# Altium schematic symbol library Lora-IO-Device.SCHLIB: 23 symbols
Pins are listed as number, name and electrical type; pins without a type are passive.

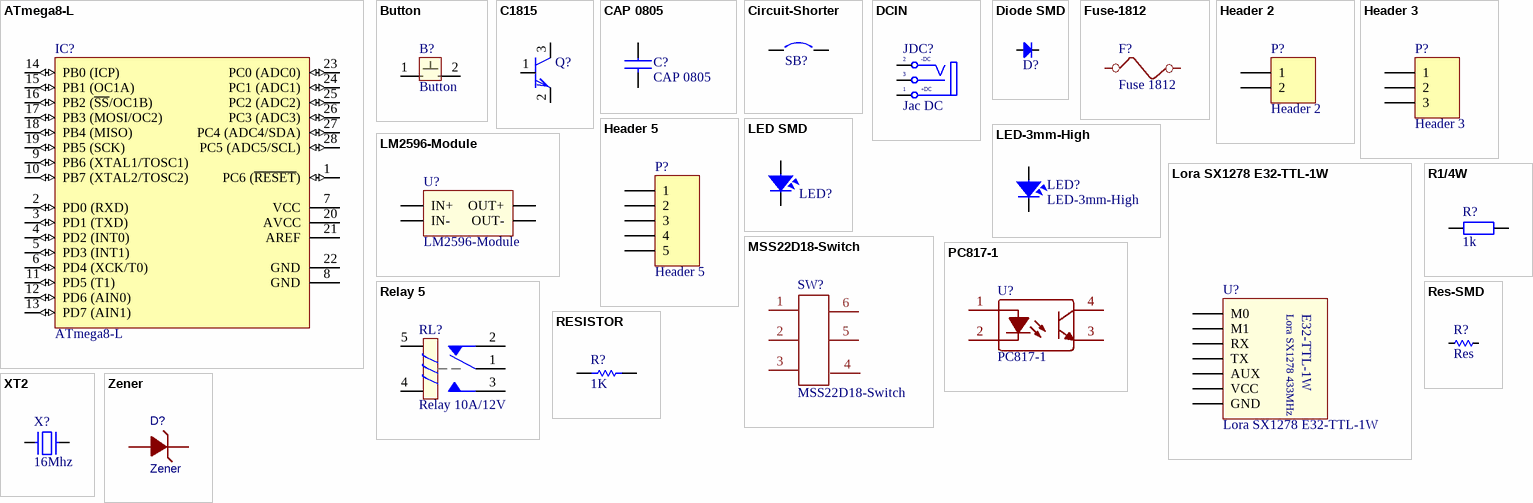
[diagram p0: symbols ATmega8-L to Zener]

## ATmega8-L
designator IC?
8-Bit AVR Microcontroller with 8K Bytes of In-System Programmable Flash Memory; Value: ATmega8-L
footprint QFP7X7-G32/X.45N (QFP; 32 Leads; Body 7 x 7 mm; Pitch 0.8 mm)
footprint DIP28/W0.3 (28 PIN, W 300mil, Pin to pin 100mil)
pins: 1 PC6 (~{RESET}) (io), 2 PD0 (RXD) (io), 3 PD1 (TXD) (io), 4 PD2 (INT0) (io), 5 PD3 (INT1) (io), 6 PD4 (XCK/T0) (io), 7 VCC (power), 8 GND (power), 9 PB6 (XTAL1/TOSC1) (io), 10 PB7 (XTAL2/TOSC2) (io), 11 PD5 (T1) (io), 12 PD6 (AIN0) (io), 13 PD7 (AIN1) (io), 14 PB0 (ICP) (io), 15 PB1 (OC1A) (io), 16 PB2 (~{SS}/OC1B) (io), 17 PB3 (MOSI/OC2) (io), 18 PB4 (MISO) (io), 19 PB5 (SCK) (io), 20 AVCC (power), 21 AREF, 22 GND (power), 23 PC0 (ADC0) (io), 24 PC1 (ADC1) (io), 25 PC2 (ADC2) (io), 26 PC3 (ADC3) (io), 27 PC4 (ADC4/SDA) (io), 28 PC5 (ADC5/SCL) (io)

## Button
designator B?
Button 6x6 SMD 4 pin
footprint Button (B?)
pins: 1, 2

## C1815
designator Q?  (value not drawn)
Q2SC1815; PSpiceTemplate: Q^@REFDES %c %b %e @MODEL; Vendor: Digikey; COMPONENT: 2SC1815; Published: 13-April-2009; Publisher: Hoang Nguyen; ComponentLink1Description: Digikey Part Link; ComponentLink2Description: Open Datasheet; ComponentLink2URL: H:\LIBRARY\LIBRARY.Datasheet\; Price: 500VND
footprint TO92-ECB
simulation model Q2SC1815
footprint SOT23 [C1815] (SOT23, 3-Leads, Body 3.0x2.6mm (max), Pitch 0.95mm, IPC Medium Density)
footprint SOT23N (SOT23, 3-Leads, Body 3.0x2.6mm (max), Pitch 0.95mm, IPC Medium Density)
footprint TO92-ECB-W (C1815)
pins: 1 B, 2 E, 3 C

## CAP 0805
designator C?
Right: 20; Bottom: 10
footprint 0805
pins: 1, 2

## Circuit-Shorter
designator SB?  (value not drawn)
Solder: NO; Published: 24-Mar-1999; Revision: July-2002: Re-released for DXP Platform.; Publisher: Altium Limited
footprint SPST-2 (Circuit Breaker; 2 Leads)
footprint JP2_SMD
footprint Circuit-Shorter
pins: 1, 2

## DCIN
designator JDC?, comment Jac DC
Jac DC input; Value: Jac DC
footprint DC0 (Jac DC input)
footprint DC1 (WR-DC_DC Power Jack_Right Angled_THT Center Pin ?0.65_Plug ID ?0.75_Plug OD ?2.35_with Peg)
footprint DC2 (WR-DC_DC Power Jack_Vertical_THT WR-DC_DC Power Jack_Vertical_THT)
footprint DC3 (WR-DC_DC Power Jack_Vertical_THT Center Pin ?2.5_Plug ID ?2.55_Plug OD ?5.5)
footprint DC4 (WR-DC_DC Power Jack_Right Angled_THT Center Pin ?1.0_Plug ID ?1.05_Plug OD ?3.5_with Peg)
footprint DC5 (WR-DC_DC Power Jack_Right Angled_THT Center Pin ?1.3_Plug ID ?1.35_Plug OD ?3.5_with Peg)
pins: 1 T "Tip", 2 TN "Tip Normal (Break Contact)", 3 S (power) "Sleeve (Ground)"
text: -DC; +DC

## Diode SMD
designator D?  (value not drawn)
Default Diode; Code - JEDEC: DO-214-AB; Value: 1N5007; Published: 8-Jun-2000; Revision: July-2002: Re-released for DXP Platform.; Publisher: Altium Limited
footprint DIO-SMD-106
footprint DIO-SMD-123
footprint DIO-SMD-A
footprint DIO-SMD-B (Magnetic-Core Inductor with Winding Polarity Marking; 2 Leads)
footprint DIO-SMD-216AA (DO216AA ST-MITE)
footprint DIO-SMD-222AA (DO216AA ST-MITE)
pins: 1 A, 2 K

## Fuse-1812
designator F?, comment Fuse 1812
footprint Fuse-1812
pins: 1, 2

## Header 2
designator P?
Header, 2-Pin; LatestRevisionDate: 17-Jul-2002; LatestRevisionNote: Re-released for DXP Platform.; Publisher: Altium Limited
footprint PHeader 2 (Connector; Header; 2 Position)
footprint Header 2 (Connector; Header; 2 Position)
footprint TBlock 2 (Connector; Terminal; 2 Positions; Solder Pad 35mil)
footprint SHeader 2 (Connector; Header; Signal; 2 Positions; Solder Pad 35mil)
footprint DC Terminal (DC Terminal; Solder Pad 35mil)
footprint M_DC Terminal (DC Terminal; Manufacture-Solder Pad 24mil)
footprint PTBlock 2 (Connector; Terminal; Power; 2 Positions; Solder Pad 35mil)
footprint PHeader 2-V (Connector; Header; Power; 2 Position; Vertical; Solder Pad 35mil)
footprint Header 2-V (Connector; Header; 2 Position; Vertical; Solder Pad 35mil)
pins: 1, 2

## Header 3
designator P?
Header, 3-Pin; LatestRevisionDate: 17-Jul-2002; LatestRevisionNote: Re-released for DXP Platform.; Publisher: Altium Limited
footprint PHeader 3 (Connector; Power; Header; 3 Position)
footprint Header 3 (Connector; Header; 3 Position)
footprint TBlock 3 (Connector; Terminal; 3 Positions; Solder Pad 35mil)
footprint PTBlock 3 (Connector; Terminal; Power; 3 Positions; Solder Pad 35mil)
footprint PHeader 3-V (Connector; Header; Power; 3 Position; Vertical; Solder Pad 35mil)
footprint Header 3-V (Connector; Header; 3 Position; Vertical; Solder Pad 35mil)
pins: 1, 2, 3

## Header 5
designator P?
Header, 5-Pin; LatestRevisionDate: 17-Jul-2002; LatestRevisionNote: Re-released for DXP Platform.; Publisher: Altium Limited
footprint Header 5 (Connector; Header; 5 Position)
footprint PHeader 5 (Connector; Header; Power; 5 Position)
footprint Header 5-V (Connector; Header; 5 Position; Vertical; Solder Pad 35mil)
pins: 1, 2, 3, 4, 5

## LED SMD
designator LED?, comment LED  (value not drawn)
Value: LED 3 - 5 ly 2 Colour
footprint LED 3512
footprint LED-0805-Blue
footprint LED-0805-Green
footprint LED-0805-Orange
footprint LED-1206-Blue (Compoment SMD 120x60mil)
footprint LED-0805-Yellow
footprint LED-0805-Red
footprint LED-1206-Green
footprint LED-1206-Orange
footprint LED-1206-Red
footprint LED-1206-Yellow
footprint LED-BLUE 0805
footprint LED-GREEN-0805
footprint LED-ORANGE-0805
footprint LED-RED-0805
footprint LED-WHITE-0805
footprint LED-YELLOW-0805
pins: 1, 2

## LED-3mm-High
designator LED?
footprint LED-3mm-High-Blue
footprint LED-3mm-High-Green
footprint LED-3mm-High-Red
footprint LED-3mm-High-White
footprint LED-3mm-High-Yellow
pins: 1 A, 2 K

## LM2596-Module
designator U?
footprint LM2596-Module-1
footprint LM2596-Module-2
pins: IN+, IN-, OUT+, OUT-

## Lora SX1278 E32-TTL-1W
designator U?
footprint Lora SX1278 E32-TTL-1W
footprint Lora SX1278 E32-TTL-1W-1
pins: 1 M0, 2 M1, 3 RX, 4 TX, 5 AUX, 6 VCC, 7 GND
text: Lora SX1278 433MHz; E32-TTL-1W

## MSS22D18-Switch
designator SW?
footprint MSS22D18-Switch-DIP
footprint MSS22D18-Switch-SMD
pins: 1, 2, 3, 4, 5, 6

## PC817-1
designator U?
footprint PC817-1-SMD
pins: 1 AN, 2 CA, 3 EM, 4 COL

## R1/4W
designator R?, comment 1k
Resistor 1/4W; Value: R1/4W - 1K
footprint R1/4W (R 1/4W, 2 Pin, 350mil)
footprint R1/8W (R 1/8W, 2 pin, 300mil)
footprint R1/2W (R 1/2W, 2 pin, 400mil)
footprint R1/4WD (R 1/4W, 2 Pin, 150mil)
footprint SM-RES-0805
pins: 1, 2

## Relay 5
designator RL?, comment Relay 10A/12V
Relay SPDT,10A - 12VDC 5 Pin; Value: Relay SPDT, 10A, 12V
footprint RELAY 5 (Reley DPDT, 8 pin, 1A, W400mil, L800mil,H 300mil)
pins: 1, 2, 3, 4, 5

## Res-SMD
designator R?, comment Res
Resistor; Manufacturer: Generic Components; Class: Passive; Published: 08/06/2000; Publisher: Altium Hobart Technology Centre
footprint RES-SMD-0101
footprint RES-SMD-0201
footprint RES-SMD-0603
footprint RES-SMD-0805
footprint RES-SMD-1206
footprint RES-SMD-1210 (Chip Capacitor, Body 3.2x2.5mm, IPC Medium Density)
footprint RES-SMD-1812 (Chip Capacitor, Body 3.2x2.5mm, IPC Medium Density)
footprint RES-SMD-2010 (Chip Capacitor, Body 3.2x2.5mm, IPC Medium Density)
footprint RES-SMD-2512 (Chip Capacitor, Body 3.2x2.5mm, IPC Medium Density)
footprint RES-SMD-0402
pins: 1, 2

## RESISTOR
designator R?  value 1K  (hidden comment: RESISTOR)
Published: 8-Jun-2000; LatestRevisionDate: 17-Jul-2002; LatestRevisionNote: Re-released for DXP Platform.; PackageReference: AXIAL-0.3; Publisher: Altium Limited
footprint Res 49mm (10W) (Resistor; 2 Leads; 10W; Solder Pad 35mil)
footprint Res 52mm (15W) (Resistor; 2 Leads; 15W; Solder Pad 35mil)
footprint R-0805 (Chip Resistor; Body 2.0 x 1.3 mm (LxW typ))
footprint Res 10mm (1/2W) (Resistor; 2 Leads; 1/2W; Solder Pad 35mil)
footprint Res 25mm (5W) (Resistor; 2 Leads; 5W; Solder Pad 35mil)
footprint Res 18mm (1W) (Resistor; 2 Leads; 1W; Solder Pad 35mil)
footprint Res 25mm (3W) (Resistor; 2 Leads; 3W; Solder Pad 35mil)
pins: 1, 2

## XT2
designator X?, comment 16Mhz
Crystal For all Crystal 2pin.; Value: 4Mhz
footprint XT2 (Footpin for Crystal 2 pin)
footprint XT2N (Crystal 2pin, high 200 mil)
pins: 1, 2

## Zener
designator D?
BOM_Manufacturer: NXP Semicon; BOM_Manufacturer Part: BZV55-C15; Contributor: LCSC; BOM_Supplier: LCSC; BOM_Supplier Part: C108433; spicePre: D
footprint SOD80C
footprint SOT23
pins: 1 A, 2 K